# Altium footprint library FROGSBORO.PcbLib: 9 footprints
Each footprint in its own frame and in the unit in brackets; x right, y up, seen from the top. Pads: shape width x height; smd on the part's side, far side on the other; paste and mask are expansions set on the pad; w line width, h text height; cw(c..) or ccw(c..) is an arc to the next point about the centre after c.
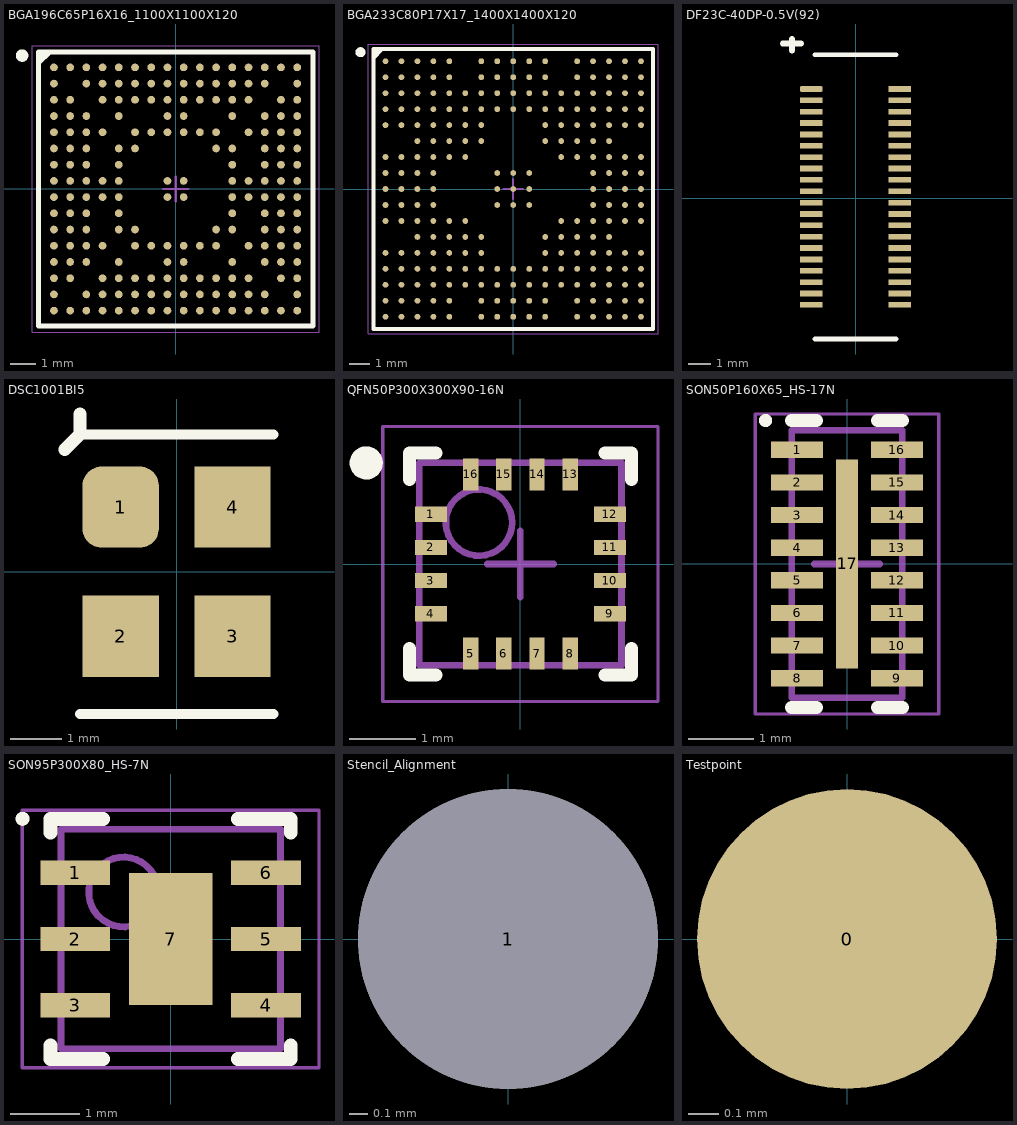
[diagram p0: the footprints below, top view; thin cyan lines are the x and y axes]

## BGA196C65P16X16_1100X1100X120 [mm] "BGA, 196-Leads, Body 11.00x11.00mmx1.20mm, Pitch 0.65mm"
height 1.2
pads (196):
  round 0.31 smd: A1(-4.875,4.875) A2(-4.225,4.875) A3(-3.575,4.875) A4(-2.925,4.875) A5(-2.275,4.875) A6(-1.625,4.875) A7(-0.975,4.875) A8(-0.325,4.875) A9(0.325,4.875) A10(0.975,4.875) A11(1.625,4.875) A12(2.275,4.875) A13(2.925,4.875) A14(3.575,4.875) A15(4.225,4.875) A16(4.875,4.875) B1(-4.875,4.225) B3(-3.575,4.225) B4(-2.925,4.225) B5(-2.275,4.225) B6(-1.625,4.225) B7(-0.975,4.225) B8(-0.325,4.225) B9(0.325,4.225) B10(0.975,4.225) B11(1.625,4.225) B12(2.275,4.225) B13(2.925,4.225) B14(3.575,4.225) B16(4.875,4.225) C1(-4.875,3.575) C2(-4.225,3.575) C4(-2.925,3.575) C5(-2.275,3.575) C6(-1.625,3.575) C7(-0.975,3.575) C8(-0.325,3.575) C9(0.325,3.575) C10(0.975,3.575) C11(1.625,3.575) C12(2.275,3.575) C13(2.925,3.575) C15(4.225,3.575) C16(4.875,3.575) D1(-4.875,2.925) D2(-4.225,2.925) D3(-3.575,2.925) D5(-2.275,2.925) D8(-0.325,2.925) D9(0.325,2.925) D12(2.275,2.925) D14(3.575,2.925) D15(4.225,2.925) D16(4.875,2.925) E1(-4.875,2.275) E2(-4.225,2.275) E3(-3.575,2.275) E4(-2.925,2.275) E6(-1.625,2.275) E7(-0.975,2.275) E8(-0.325,2.275) E9(0.325,2.275) E10(0.975,2.275) E11(1.625,2.275) E13(2.925,2.275) E14(3.575,2.275) E15(4.225,2.275) E16(4.875,2.275) F1(-4.875,1.625) F2(-4.225,1.625) F3(-3.575,1.625) F5(-2.275,1.625) F6(-1.625,1.625) F11(1.625,1.625) F12(2.275,1.625) F14(3.575,1.625) F15(4.225,1.625) F16(4.875,1.625) G1(-4.875,0.975) G2(-4.225,0.975) G3(-3.575,0.975) G5(-2.275,0.975) G12(2.275,0.975) G14(3.575,0.975) G15(4.225,0.975) G16(4.875,0.975) H1(-4.875,0.325) H2(-4.225,0.325) H3(-3.575,0.325) H4(-2.925,0.325) H5(-2.275,0.325) H8(-0.325,0.325) H9(0.325,0.325) H12(2.275,0.325) H13(2.925,0.325) H14(3.575,0.325) H15(4.225,0.325) H16(4.875,0.325) J1(-4.875,-0.325) J2(-4.225,-0.325) J3(-3.575,-0.325) J4(-2.925,-0.325) J5(-2.275,-0.325) J8(-0.325,-0.325) J9(0.325,-0.325) J12(2.275,-0.325) J13(2.925,-0.325) J14(3.575,-0.325) J15(4.225,-0.325) J16(4.875,-0.325) K1(-4.875,-0.975) K2(-4.225,-0.975) K3(-3.575,-0.975) K5(-2.275,-0.975) K12(2.275,-0.975) K14(3.575,-0.975) K15(4.225,-0.975) K16(4.875,-0.975) L1(-4.875,-1.625) L2(-4.225,-1.625) L3(-3.575,-1.625) L5(-2.275,-1.625) L6(-1.625,-1.625) L11(1.625,-1.625) L12(2.275,-1.625) L14(3.575,-1.625) L15(4.225,-1.625) L16(4.875,-1.625) M1(-4.875,-2.275) M2(-4.225,-2.275) M3(-3.575,-2.275) M4(-2.925,-2.275) M6(-1.625,-2.275) M7(-0.975,-2.275) M8(-0.325,-2.275) M9(0.325,-2.275) M10(0.975,-2.275) M11(1.625,-2.275) M13(2.925,-2.275) M14(3.575,-2.275) M15(4.225,-2.275) M16(4.875,-2.275) N1(-4.875,-2.925) N2(-4.225,-2.925) N3(-3.575,-2.925) N5(-2.275,-2.925) N8(-0.325,-2.925) N9(0.325,-2.925) N12(2.275,-2.925) N14(3.575,-2.925) N15(4.225,-2.925) N16(4.875,-2.925) P1(-4.875,-3.575) P2(-4.225,-3.575) P4(-2.925,-3.575) P5(-2.275,-3.575) P6(-1.625,-3.575) P7(-0.975,-3.575) P8(-0.325,-3.575) P9(0.325,-3.575) P10(0.975,-3.575) P11(1.625,-3.575) P12(2.275,-3.575) P13(2.925,-3.575) P15(4.225,-3.575) P16(4.875,-3.575) R1(-4.875,-4.225) R3(-3.575,-4.225) R4(-2.925,-4.225) R5(-2.275,-4.225) R6(-1.625,-4.225) R7(-0.975,-4.225) R8(-0.325,-4.225) R9(0.325,-4.225) R10(0.975,-4.225) R11(1.625,-4.225) R12(2.275,-4.225) R13(2.925,-4.225) R14(3.575,-4.225) R16(4.875,-4.225) T1(-4.875,-4.875) T2(-4.225,-4.875) T3(-3.575,-4.875) T4(-2.925,-4.875) T5(-2.275,-4.875) T6(-1.625,-4.875) T7(-0.975,-4.875) T8(-0.325,-4.875) T9(0.325,-4.875) T10(0.975,-4.875) T11(1.625,-4.875) T12(2.275,-4.875) T13(2.925,-4.875) T14(3.575,-4.875) T15(4.225,-4.875) T16(4.875,-4.875)
Top Overlay:
  circle w0.25: c-6.15,5.35 r0.125
  region: -5.035,5.5 -5.5,5.035 -5.5,5.5
  lines w0.2: -5.5,5.035 -5.035,5.5 ; -5.5,-5.5 -5.5,5.5 5.5,5.5 5.5,-5.5 -5.5,-5.5
Mechanical 13:
  lines w0.1: -5.5,-5.5 -5.5,5.5 5.5,5.5 5.5,-5.5 -5.5,-5.5
Mechanical 15:
  lines w0.05: -5.75,-5.75 -5.75,5.75 5.75,5.75 5.75,-5.75 -5.75,-5.75
  lines w0.1: -0.5,0 0.5,0 ; 0,-0.5 0,0.5
3D body "BGA196C65P16X16_1100X1100X120.step": height 1.2, standoff 0, extent -5.5,-5.5 5.5,5.5

## BGA233C80P17X17_1400X1400X120 [mm] "BGA, 233-Leads, Body 14.00x14.00mmx1.20mm, Pitch 0.80mm"
height 1.2
pads (233):
  round 0.29 smd: A1(-6.4,6.4) A2(-5.6,6.4) A3(-4.8,6.4) A4(-4,6.4) A5(-3.2,6.4) A7(-1.6,6.4) A8(-0.8,6.4) A9(0,6.4) A10(0.8,6.4) A11(1.6,6.4) A13(3.2,6.4) A14(4,6.4) A15(4.8,6.4) A16(5.6,6.4) A17(6.4,6.4) B1(-6.4,5.6) B2(-5.6,5.6) B3(-4.8,5.6) B4(-4,5.6) B5(-3.2,5.6) B7(-1.6,5.6) B8(-0.8,5.6) B9(0,5.6) B10(0.8,5.6) B11(1.6,5.6) B13(3.2,5.6) B14(4,5.6) B15(4.8,5.6) B16(5.6,5.6) B17(6.4,5.6) C1(-6.4,4.8) C2(-5.6,4.8) C3(-4.8,4.8) C4(-4,4.8) C5(-3.2,4.8) C6(-2.4,4.8) C7(-1.6,4.8) C8(-0.8,4.8) C9(0,4.8) C10(0.8,4.8) C11(1.6,4.8) C12(2.4,4.8) C13(3.2,4.8) C14(4,4.8) C15(4.8,4.8) C16(5.6,4.8) C17(6.4,4.8) D1(-6.4,4) D2(-5.6,4) D3(-4.8,4) D4(-4,4) D5(-3.2,4) D6(-2.4,4) D7(-1.6,4) D8(-0.8,4) D9(0,4) D10(0.8,4) D11(1.6,4) D12(2.4,4) D13(3.2,4) D14(4,4) D15(4.8,4) D16(5.6,4) D17(6.4,4) E1(-6.4,3.2) E2(-5.6,3.2) E3(-4.8,3.2) E4(-4,3.2) E5(-3.2,3.2) E6(-2.4,3.2) E7(-1.6,3.2) E11(1.6,3.2) E12(2.4,3.2) E13(3.2,3.2) E14(4,3.2) E15(4.8,3.2) E16(5.6,3.2) E17(6.4,3.2) F3(-4.8,2.4) F4(-4,2.4) F5(-3.2,2.4) F6(-2.4,2.4) F7(-1.6,2.4) F11(1.6,2.4) F12(2.4,2.4) F13(3.2,2.4) F14(4,2.4) F15(4.8,2.4) G1(-6.4,1.6) G2(-5.6,1.6) G3(-4.8,1.6) G4(-4,1.6) G5(-3.2,1.6) G6(-2.4,1.6) G12(2.4,1.6) G13(3.2,1.6) G14(4,1.6) G15(4.8,1.6) G16(5.6,1.6) G17(6.4,1.6) H1(-6.4,0.8) H2(-5.6,0.8) H3(-4.8,0.8) H4(-4,0.8) H8(-0.8,0.8) H9(0,0.8) H10(0.8,0.8) H14(4,0.8) H15(4.8,0.8) H16(5.6,0.8) H17(6.4,0.8) J1(-6.4,0) J2(-5.6,0) J3(-4.8,0) J4(-4,0) J8(-0.8,0) J9(0,0) J10(0.8,0) J14(4,0) J15(4.8,0) J16(5.6,0) J17(6.4,0) K1(-6.4,-0.8) K2(-5.6,-0.8) K3(-4.8,-0.8) K4(-4,-0.8) K8(-0.8,-0.8) K9(0,-0.8) K10(0.8,-0.8) K14(4,-0.8) K15(4.8,-0.8) K16(5.6,-0.8) K17(6.4,-0.8) L1(-6.4,-1.6) L2(-5.6,-1.6) L3(-4.8,-1.6) L4(-4,-1.6) L5(-3.2,-1.6) L6(-2.4,-1.6) L12(2.4,-1.6) L13(3.2,-1.6) L14(4,-1.6) L15(4.8,-1.6) L16(5.6,-1.6) L17(6.4,-1.6) M3(-4.8,-2.4) M4(-4,-2.4) M5(-3.2,-2.4) M6(-2.4,-2.4) M7(-1.6,-2.4) M11(1.6,-2.4) M12(2.4,-2.4) M13(3.2,-2.4) M14(4,-2.4) M15(4.8,-2.4) N1(-6.4,-3.2) N2(-5.6,-3.2) N3(-4.8,-3.2) N4(-4,-3.2) N5(-3.2,-3.2) N6(-2.4,-3.2) N7(-1.6,-3.2) N11(1.6,-3.2) N12(2.4,-3.2) N13(3.2,-3.2) N14(4,-3.2) N15(4.8,-3.2) N16(5.6,-3.2) N17(6.4,-3.2) P1(-6.4,-4) P2(-5.6,-4) P3(-4.8,-4) P4(-4,-4) P5(-3.2,-4) P6(-2.4,-4) P7(-1.6,-4) P8(-0.8,-4) P9(0,-4) P10(0.8,-4) P11(1.6,-4) P12(2.4,-4) P13(3.2,-4) P14(4,-4) P15(4.8,-4) P16(5.6,-4) P17(6.4,-4) R1(-6.4,-4.8) R2(-5.6,-4.8) R3(-4.8,-4.8) R4(-4,-4.8) R5(-3.2,-4.8) R6(-2.4,-4.8) R7(-1.6,-4.8) R8(-0.8,-4.8) R9(0,-4.8) R10(0.8,-4.8) R11(1.6,-4.8) R12(2.4,-4.8) R13(3.2,-4.8) R14(4,-4.8) R15(4.8,-4.8) R16(5.6,-4.8) R17(6.4,-4.8) T1(-6.4,-5.6) T2(-5.6,-5.6) T3(-4.8,-5.6) T4(-4,-5.6) T5(-3.2,-5.6) T7(-1.6,-5.6) T8(-0.8,-5.6) T9(0,-5.6) T10(0.8,-5.6) T11(1.6,-5.6) T13(3.2,-5.6) T14(4,-5.6) T15(4.8,-5.6) T16(5.6,-5.6) T17(6.4,-5.6) U1(-6.4,-6.4) U2(-5.6,-6.4) U3(-4.8,-6.4) U4(-4,-6.4) U5(-3.2,-6.4) U7(-1.6,-6.4) U8(-0.8,-6.4) U9(0,-6.4) U10(0.8,-6.4) U11(1.6,-6.4) U13(3.2,-6.4) U14(4,-6.4) U15(4.8,-6.4) U16(5.6,-6.4) U17(6.4,-6.4)
Top Overlay:
  circle w0.25: c-7.65,6.85 r0.125
  region: -6.571,7 -7,6.571 -7,7
  lines w0.2: -7,6.571 -6.571,7 ; -7,-7 -7,7 7,7 7,-7 -7,-7
Mechanical 13:
  lines w0.1: -7,-7 -7,7 7,7 7,-7 -7,-7
Mechanical 15:
  lines w0.05: -7.25,-7.25 -7.25,7.25 7.25,7.25 7.25,-7.25 -7.25,-7.25
  lines w0.1: -0.5,0 0.5,0 ; 0,-0.5 0,0.5
3D body "BGA233C80P17X17_1400X1400X120.step": height 1.2, standoff 0, extent -7,-7 7,7

## DF23C-40DP-0.5V(92) [mm]
pads (40):
  rrect50% 1x0.25 smd: 1(-1.95,4.8)
  rect 1x0.25 smd: 2(1.95,4.8) 3(-1.95,4.3) 4(1.95,4.3) 5(-1.95,3.8) 6(1.95,3.8) 7(-1.95,3.3) 8(1.95,3.3) 9(-1.95,2.8) 10(1.95,2.8) 11(-1.95,2.3) 12(1.95,2.3) 13(-1.95,1.8) 14(1.95,1.8) 15(-1.95,1.3) 16(1.95,1.3) 17(-1.95,0.8) 18(1.95,0.8) 19(-1.95,0.3) 20(1.95,0.3) 21(-1.95,-0.2) 22(1.95,-0.2) 23(-1.95,-0.7) 24(1.95,-0.7) 25(-1.95,-1.2) 26(1.95,-1.2) 27(-1.95,-1.7) 28(1.95,-1.7) 29(-1.95,-2.2) 30(1.95,-2.2) 31(-1.95,-2.7) 32(1.95,-2.7) 33(-1.95,-3.2) 34(1.95,-3.2) 35(-1.95,-3.7) 36(1.95,-3.7) 37(-1.95,-4.2) 38(1.95,-4.2) 39(-1.95,-4.7) 40(1.95,-4.7)
Top Overlay:
  lines w0.2: -1.8,-6.2 1.8,-6.2 ; -1.8,6.3 1.8,6.3
  lines w0.254: -3.2,6.8 -2.4,6.8 ; -2.8,6.5 -2.8,7
3D body "DF23C-40DP-0.5V.stp": height 1.2, standoff 0, extent -2.178,-5.7 2.122,5.8

## DSC1001BI5 [mm]
pads (4):
  rrect50% 1.5x1.6 smd: 1(-1.1,1.27)
  rect 1.5x1.6 smd: 2(-1.1,-1.27) 3(1.1,-1.27) 4(1.1,1.27)
Top Overlay:
  lines w0.2: -1.9,-2.8 1.9,-2.8 ; -1.9,2.7 1.9,2.7
  lines w0.254: -2.2,2.4 -1.9,2.7 -1.9,3.1
3D body "CDFN4_5X3P2_MCH.step": height 0.85, standoff 0, extent -1.6,-2.553 1.6,2.447

## QFN50P300X300X90-16N [mm] "QFN, 16-Leads, Body 3.00x3.00mm, Pitch 0.50mm, IPC Medium Density"
height 0.9
pads (16):
  rect 0.48x0.23 smd: 1(-1.35,0.75) 2(-1.35,0.25) 3(-1.35,-0.25) 4(-1.35,-0.75) 9(1.35,-0.75) 10(1.35,-0.25) 11(1.35,0.25) 12(1.35,0.75)
  rect 0.23x0.48 smd: 5(-0.75,-1.35) 6(-0.25,-1.35) 7(0.25,-1.35) 8(0.75,-1.35) 13(0.75,1.35) 14(0.25,1.35) 15(-0.25,1.35) 16(-0.75,1.35)
Top Overlay:
  circle w0.25: c-2.325,1.525 r0.125
  lines w0.2: -1.675,-1.275 -1.675,-1.675 -1.275,-1.675 ; -1.675,1.275 -1.675,1.675 -1.275,1.675 ; 1.275,-1.675 1.675,-1.675 1.675,-1.275 ; 1.275,1.675 1.675,1.675 1.675,1.275
Mechanical 13:
  circle w0.1: c-0.625,0.625 r0.5
  lines w0.1: -1.525,-1.525 -1.525,1.525 1.525,1.525 1.525,-1.525 -1.525,-1.525
Mechanical 15:
  lines w0.05: -2.075,-2.075 -2.075,2.075 2.075,2.075 2.075,-2.075 -2.075,-2.075
  lines w0.1: -0.5,0 0.5,0 ; 0,-0.5 0,0.5
3D body "QFN50P300X300X90-16N.step": height 0.9, standoff 0, extent -1.575,-1.575 1.575,1.575

## SON50P160X65_HS-17N [mm] "SON, 16-Leads, Body 4.00x1.60mm, Pitch 0.50mm, Thermal Pad 3.20x0.33mm, IPC Medium Density"
height 0.65
pads (17):
  rect 0.8x0.25 smd: 1(-0.765,1.75) 2(-0.765,1.25) 3(-0.765,0.75) 4(-0.765,0.25) 5(-0.765,-0.25) 6(-0.765,-0.75) 7(-0.765,-1.25) 8(-0.765,-1.75) 9(0.765,-1.75) 10(0.765,-1.25) 11(0.765,-0.75) 12(0.765,-0.25) 13(0.765,0.25) 14(0.765,0.75) 15(0.765,1.25) 16(0.765,1.75)
  rect 0.33x3.2 smd: 17(0,0)
Top Overlay:
  circle w0.1: c-1.25,2.2 r0.05
  lines w0.2: -0.85,-2.2 -0.465,-2.2 ; -0.85,2.2 -0.465,2.2 ; 0.465,-2.2 0.85,-2.2 ; 0.465,2.2 0.85,2.2
Mechanical 13:
  lines w0.1: -0.85,-2.05 0.85,-2.05 0.85,2.05 -0.85,2.05 -0.85,-2.05
Mechanical 15:
  lines w0.05: -1.405,-2.3 1.405,-2.3 1.405,2.3 -1.405,2.3 -1.405,-2.3
  lines w0.1: -0.5,0 0.5,0 ; 0,-0.5 0,0.5
3D body "SON50P160X65_HS-17N.step": height 0.65, standoff 0, extent -0.851,-2.05 0.851,2.05

## SON95P300X80_HS-7N [mm] "SON, 6-Leads, Body 3.00x3.00mm, Pitch 0.95mm, Thermal Pad 1.90x1.20mm, IPC Medium Density"
height 0.8
pads (7):
  rect 1x0.35 smd: 1(-1.37,0.95) 2(-1.37,0) 3(-1.37,-0.95) 4(1.37,-0.95) 5(1.37,0) 6(1.37,0.95)
  rect 1.2x1.9 smd: 7(0,0)
Top Overlay:
  circle w0.1: c-2.125,1.725 r0.05
  lines w0.2: -1.725,-1.525 -1.725,-1.725 -0.97,-1.725 ; -1.725,1.525 -1.725,1.725 -0.97,1.725 ; 0.97,-1.725 1.725,-1.725 1.725,-1.525 ; 0.97,1.725 1.725,1.725 1.725,1.525
Mechanical 13:
  circle w0.1: c-0.675,0.675 r0.5
  lines w0.1: -1.575,-1.575 -1.575,1.575 1.575,1.575 1.575,-1.575 -1.575,-1.575
Mechanical 15:
  lines w0.05: -2.13,-1.85 -2.13,1.85 2.13,1.85 2.13,-1.85 -2.13,-1.85
  lines w0.1: -0.5,0 0.5,0 ; 0,-0.5 0,0.5
3D body "SON95P300X80_HS-7N.step": height 0.8, standoff 0, extent -1.625,-1.575 1.625,1.575

## Stencil_Alignment [mm]
pads (1):
  round 1.6 hole 1.6 paste+1.6 mask+0: 1(0,0)
Top Paste:
  circle w0.8: c0,0 r0.4
Bottom Paste:
  circle w0.8: c0,0 r0.4

## Testpoint [mm]
pads (1):
  round 1 smd: 0(0,0)